# EAGLE library part MICROSD (library CPSS_CONNECTOR)
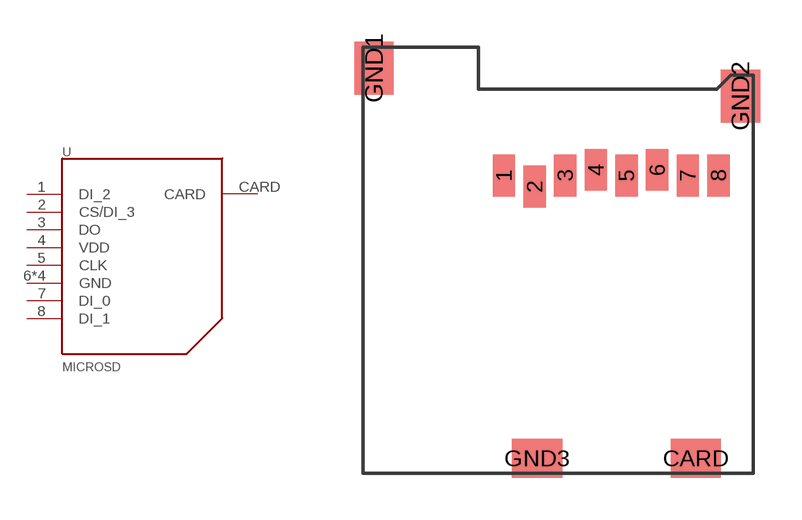
[diagram p6: symbol with the pads of CONN_MICROSD; footprint CONN_MICROSD]

Designator prefix -

## MICROSD  [CONN_MICROSD]
1  DI_2
2  CS/DI_3
3  DO
4  VDD
5  CLK
6  GND
7  DI_0
8  DI_1
CARD  CARD
GND1  GND
GND2  GND
GND3  GND

## Footprint CONN_MICROSD (pad centres in mm)
smd 0.8 x 1.5: 1 5.36,10.7; 2 6.46,10.3; 3 7.56,10.7; 4 8.66,10.9; 5 9.76,10.7; 6 10.86,10.9; 7 11.96,10.7; 8 13.06,10.7
smd 1.8 x 1.4: CARD 12.25,0.55; GND3 6.55,0.55
smd 1.4 x 1.9: GND1 0.7,14.55; GND2 13.85,13.55